# Altium footprint library 10pin FlatPack.PcbLib: 1 footprints
Each footprint in its own frame and in the unit in brackets; x right, y up, seen from the top. Pads: shape width x height; smd on the part's side, far side on the other; paste and mask are expansions set on the pad; w line width, h text height; cw(c..) or ccw(c..) is an arc to the next point about the centre after c.
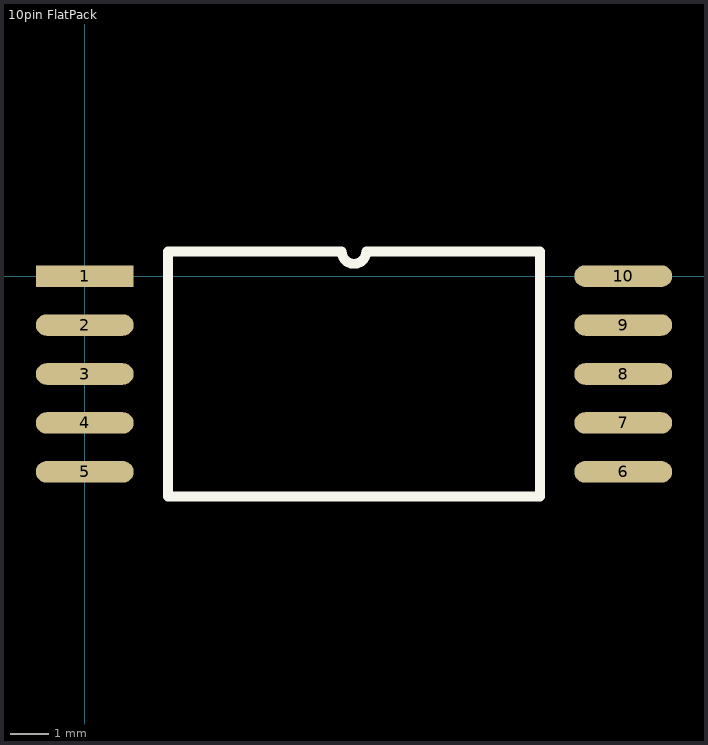
[diagram p0: the footprint, top view; thin cyan lines are the x and y axes]

## 10pin FlatPack [mil]
pads (10):
  rect 100x22 smd: 1(0,0)
  oval 100x22 smd: 2(0,-50) 3(0,-100) 4(0,-150) 5(0,-200) 6(550,-200) 7(550,-150) 8(550,-100) 9(550,-50) 10(550,0)
Top Overlay:
  lines w10: 85,-225 465,-225 465,25 287.5,25 cw(c275,25) 262.5,25 85,25 85,-225
3D body: height 115, standoff 1, extent 205,-50 350,-45
3D body: height 115, standoff 1, extent 85,-225 465,25